# EAGLE library part TLV7256I (library GTA04b7)
Texas Instruments Dual Comparator
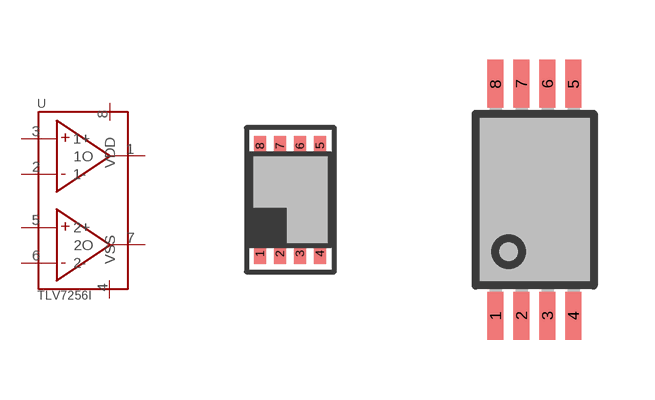
[diagram p44: symbol with the pads of R-PDSO-G8-0.5; footprints R-PDSO-G8-0.5, PW_R-PDSO-G08]

Designator prefix -

## TLV7256IDDU  [R-PDSO-G8-0.5]
1  1O  out
2  1-  in
3  1+  in
4  VSS  pwr
5  2+  in
6  2-  in
7  2O  out
8  VDD  pwr

## TLV7256ISSOP  [PW_R-PDSO-G08]
Pads as for R-PDSO-G8-0.5

## Footprint R-PDSO-G8-0.5 (pad centres in mm)
DDU package for TLV7256
smd 0.3 x 0.5: 1 -0.75,-1.35; 2 -0.25,-1.35; 3 0.25,-1.35; 4 0.75,-1.35; 5 0.75,1.35; 6 0.25,1.35; 7 -0.25,1.35; 8 -0.75,1.35

## Footprint PW_R-PDSO-G08 (pad centres in mm)
PLASTIC SMALL-OUTLINE PACKAGE, SO 8 JEDEC MO-153, PW Type Source: www.ti.com/.. slvs087l.pdf
smd 0.4 x 1.2: 1 -0.975,-2.9; 2 -0.325,-2.9; 3 0.325,-2.9; 4 0.975,-2.9; 5 0.975,2.9; 6 0.325,2.9; 7 -0.325,2.9; 8 -0.975,2.9